# EAGLE library part 966140-5F (library con-amp)
TE CONNECTIVITY / AMP : HEADER, 6WAY Source: Data sheet <http://www.farnell.com/cad/494074.pdf>
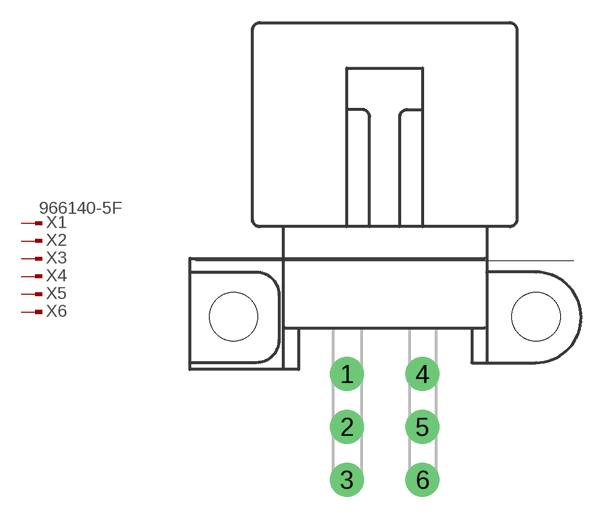
[diagram p174: symbol with the pads of 966140-5F; footprint 966140-5F]

Designator prefix X; gates 1=PIN-MV 2=PIN-M 3=PIN-M 4=PIN-M 5=PIN-M 6=PIN-M

## 966140-5F  [966140-5F]
1  1:1  pas
2  2:1  pas
3  3:1  pas
4  4:1  pas
5  5:1  pas
6  6:1  pas

## Footprint 966140-5F (pad centres in mm)
TE CONNECTIVITY / AMP : HEADER, 6WAY Source: Data sheet <http://www.farnell.com/cad/494074.pdf>
drill 1.5 pad 2.2: 1 -2.5,-7.5; 2 -2.5,-11; 3 -2.5,-14.5; 4 2.5,-7.5; 5 2.5,-11; 6 2.5,-14.5
hole 3.2 at -10,-3.7
hole 3.2 at 10,-3.7